# Altium footprint library SmartHalo_Footprints.PcbLib: 114 footprints (part 1 of 8)
Each footprint in its own frame and in the unit in brackets; x right, y up, seen from the top. Pads: shape width x height; smd on the part's side, far side on the other; paste and mask are expansions set on the pad; w line width, h text height; cw(c..) or ccw(c..) is an arc to the next point about the centre after c.
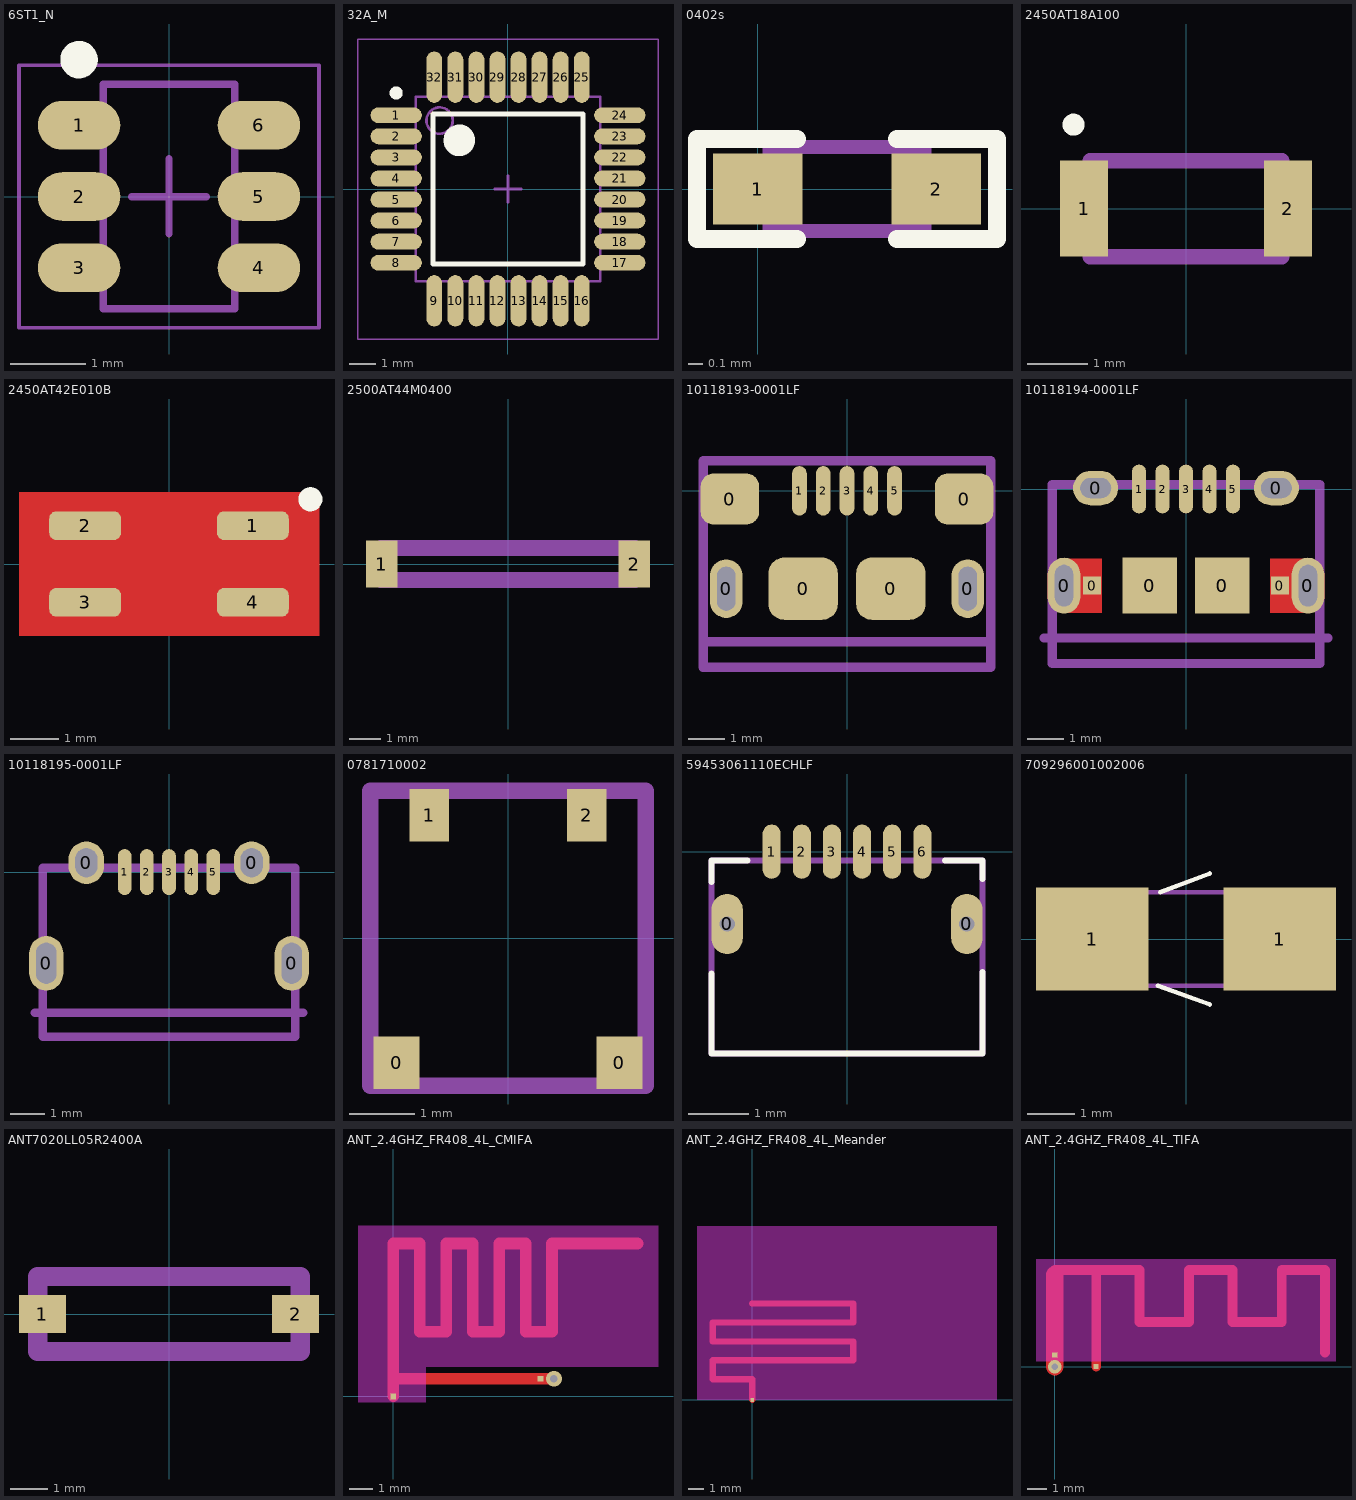
[diagram p0: the footprints below, top view; thin cyan lines are the x and y axes]

## 6ST1_N [mm] "SOT23, 6-Leads, Body 2.9x1.6mm, Pitch 0.95mm, Lead Span 2.8mm, IPC Medium Density"
height 1.45
pads (6):
  oval 1.1x0.65 smd mask+0.076: 1(-1.2,0.95) 2(-1.2,0) 3(-1.2,-0.95) 4(1.2,-0.95) 5(1.2,0) 6(1.2,0.95)
Top Overlay:
  circle w0.25: c-1.2,1.825 r0.125
3D Top:
  lines w0.1: -0.875,-1.5 -0.875,1.5 0.875,1.5 0.875,-1.5 -0.875,-1.5
Courtyard Top:
  lines w0.05: -2,-1.75 -2,1.75 2,1.75 2,-1.75 -2,-1.75
  lines w0.1: -0.5,0 0.5,0 ; 0,-0.5 0,0.5
3D body: height 1.45, standoff 0, extent -0.875,-1.5 0.875,1.5

## 32A_M [mm] "Thin QFP, 32-Leads, Body 7x7mm, Pitch 0.8mm, IPC Low Density"
height 1.2
pads (32):
  oval 1.95x0.6 smd mask+0.051: 1(-4.25,2.8) 2(-4.25,2) 3(-4.25,1.2) 4(-4.25,0.4) 5(-4.25,-0.4) 6(-4.25,-1.2) 7(-4.25,-2) 8(-4.25,-2.8) 17(4.25,-2.8) 18(4.25,-2) 19(4.25,-1.2) 20(4.25,-0.4) 21(4.25,0.4) 22(4.25,1.2) 23(4.25,2) 24(4.25,2.8)
  oval 0.6x1.95 smd mask+0.051: 9(-2.8,-4.25) 10(-2,-4.25) 11(-1.2,-4.25) 12(-0.4,-4.25) 13(0.4,-4.25) 14(1.2,-4.25) 15(2,-4.25) 16(2.8,-4.25) 25(2.8,4.25) 26(2,4.25) 27(1.2,4.25) 28(0.4,4.25) 29(-0.4,4.25) 30(-1.2,4.25) 31(-2,4.25) 32(-2.8,4.25)
Top Overlay:
  circle w0.25: c-4.25,3.65 r0.125
  circle w0.6: c-1.85,1.85 r0.3
  lines w0.2: -2.85,-2.85 -2.85,2.85 2.85,2.85 2.85,-2.85 -2.85,-2.85
3D Top:
  circle w0.1: c-2.6,2.6 r0.5
  lines w0.1: -3.5,-3.5 -3.5,3.5 3.5,3.5 3.5,-3.5 -3.5,-3.5
Courtyard Top:
  lines w0.05: -5.7,-5.7 -5.7,5.7 5.7,5.7 5.7,-5.7 -5.7,-5.7
  lines w0.1: -0.5,0 0.5,0 ; 0,-0.5 0,0.5
3D body: height 1.2, standoff 0, extent -3.5,-3.5 3.5,3.5

## 0402s [mil]
pads (2):
  rect 25x20 smd: 1(0,0) 2(50,0)
Top Overlay:
  lines w5: 11,-14 -17,-14 -17,14 11,14 ; 39,-14 67,-14 67,14 39,14
3D Top:
  lines w3.94: 3.35,-11.81 3.35,11.81 46.66,11.81 46.66,-11.81 3.35,-11.81
3D body: height 27.56, standoff 0, extent 13.19,-11.81 36.81,11.81
3D body: height 27.56, standoff 0, extent 3.35,-11.81 13.19,11.81
3D body: height 27.56, standoff 0, extent 36.81,-11.81 46.66,11.81

## 2450AT18A100 [mm] "Johanson Technology 2.45GHz SMD Chip Antenna, 3.2 x 1.6 mm body, 0.8 x 1.6 mm pads"
height 1.3
pads (2):
  rect 0.8x1.6 smd: 1(-1.7,0) 2(1.7,0)
Top Overlay:
  circle w0.254: c-1.875,1.4 r0.056
3D Top:
  lines w0.254: -1.6,-0.8 1.6,-0.8 1.6,0.8 -1.6,0.8 -1.6,-0.8
3D body: height 1.3, standoff 0, extent -1.6,-0.8 1.6,0.8

## 2450AT42E010B [mm] "2.4 GHz Low Profile Mini Chip Antenna, Above Metal, 4 pads, 1.5 x 0.6 mm pads, 3.5 x 1.6 mm pitch, 6.26 x 3 mm metal clearance"
height 1.5
pads (4):
  rrect50% 1.5x0.6 smd: 1(1.75,0.8) 2(-1.75,0.8) 3(-1.75,-0.8) 4(1.75,-0.8)
Top Layer:
  pour cut-out: -3.13,-1.5 -3.13,1.5 3.13,1.5 3.13,-1.5
Top Overlay:
  circle w0.254: c2.95,1.35 r0.125
Mechanical 3:
  rectangle: -3.13,-1.5 3.13,1.5
3D Top:
  lines w0.254: -2.5,-1 2.5,-1 2.5,1 -2.5,1 -2.5,-1 ; 0.55,-0.175 1.55,-0.175 1.55,0.225 0.55,0.225 0.55,-0.175
3D body: height 1.52, standoff 1.5, extent 0.55,-0.175 1.55,0.225
3D body: height 1.5, standoff 0, extent -2.5,-1 2.5,1

## 2500AT44M0400 [mm] "Johanson Technology 2.45GHz SMD Chip Antenna, 8 x 1 mm body, 1 x 1.5 mm pads"
height 1
pads (2):
  rect 1x1.5 smd: 1(-4,0) 2(4,0)
3D Top:
  lines w0.508: -4,-0.5 4,-0.5 4,0.5 -4,0.5 -4,-0.5
3D body: height 1, standoff 0, extent -3.5,-0.5 3.5,0.5
3D body: height 1, standoff 0, extent -4,-0.5 -3.5,0.5
3D body: height 1, standoff 0, extent 3.5,-0.5 4,0.5

## 10118193-0001LF [mm] "Micro USB B Type Receptacle, 5 pins, 0.4 x 1.35 mm pads"
height 2.7
pads (11):
  rrect100% 0.9x1.6 hole 0.5 slot 1.2 at 90 deg unplated: 0(-3.3,-2.675) 0(3.3,-2.675)
  rrect50% 1.6x1.4 smd: 0(-3.2,-0.225) 0(3.2,-0.225)
  rrect50% 1.9x1.7 smd: 0(-1.2,-2.675) 0(1.2,-2.675)
  oval 0.4x1.35 smd: 1(-1.3,0) 2(-0.65,0) 3(0,0) 4(0.65,0) 5(1.3,0)
Mechanical 3:
  lines w0.254: -3.93,-4.125 3.93,-4.125
3D Top:
  lines w0.254: -3.935,-4.825 3.925,-4.825 ; -3.93,-4.825 -3.93,0.825 3.93,0.825 3.93,-4.825
3D body: height 2.7, standoff 0, extent -3.935,-4.825 3.93,0.825

## 10118194-0001LF [mm] "Micro USB B Type Receptacle, 5 pins, 0.4 x 1.35 mm pads"
height 2.4
pads (13):
  rrect100% 0.9x1.55 hole 0.5 slot 1.15 at 90 deg: 0(-3.375,-2.675) 0(3.375,-2.675)
  rect 0.5x0.5 smd paste-0.1 mask-0.1: 0(-2.6,-2.675) 0(2.6,-2.675)
  rrect100% 1.25x0.95 hole 0.55 slot 0.85 at 0 deg: 0(-2.5,0.025) 0(2.5,0.025)
  rect 1.5x1.55 smd: 0(-1,-2.675) 0(1,-2.675)
  oval 0.4x1.35 smd mask+0.051: 1(-1.3,0) 2(-0.65,0) 3(0,0) 4(0.65,0) 5(1.3,0)
Top Layer:
  region: -3.325,-3.425 -3.424,-3.425 -3.608,-3.349 -3.749,-3.208 -3.825,-3.024 -3.825,-2.925 -3.825,-2.425 -3.825,-2.326 -3.749,-2.142 -3.608,-2.001 -3.424,-1.925 -3.325,-1.925 -2.325,-1.925 -2.325,-3.425
  region: 3.325,-1.925 3.424,-1.925 3.608,-2.001 3.749,-2.142 3.825,-2.326 3.825,-2.425 3.825,-2.925 3.825,-3.024 3.749,-3.208 3.608,-3.349 3.424,-3.425 3.325,-3.425 2.325,-3.425 2.325,-1.925
Top Paste:
  region: -3.325,-3.35 -3.363,-3.352 -3.437,-3.34 -3.508,-3.314 -3.572,-3.275 -3.6,-3.25 -3.637,-3.22 -3.697,-3.147 -3.742,-3.063 -3.769,-2.972 -3.774,-2.925 -3.774,-2.425 -3.771,-2.382 -3.749,-2.299 -3.71,-2.222 -3.657,-2.153 -3.625,-2.125 -3.596,-2.095 -3.526,-2.049 -3.449,-2.017 -3.367,-2 -3.325,-2 -2.4,-2 -2.4,-3.35
  region: 3.325,-2 3.363,-1.998 3.437,-2.01 3.508,-2.036 3.572,-2.075 3.6,-2.1 3.637,-2.13 3.697,-2.203 3.742,-2.287 3.769,-2.378 3.774,-2.425 3.774,-2.925 3.771,-2.968 3.749,-3.051 3.71,-3.128 3.657,-3.197 3.625,-3.225 3.596,-3.255 3.526,-3.301 3.449,-3.333 3.367,-3.35 3.325,-3.35 2.4,-3.35 2.4,-2
Top Solder:
  region: 3.325,-1.8 3.449,-1.8 3.679,-1.895 3.855,-2.071 3.95,-2.301 3.95,-2.425 3.95,-2.925 3.95,-3.049 3.855,-3.279 3.679,-3.455 3.449,-3.55 3.325,-3.55 2.2,-3.55 2.2,-1.8
  region: -3.325,-3.55 -3.449,-3.55 -3.679,-3.455 -3.855,-3.279 -3.95,-3.049 -3.95,-2.925 -3.95,-2.425 -3.95,-2.301 -3.855,-2.071 -3.679,-1.895 -3.449,-1.8 -3.325,-1.8 -2.2,-1.8 -2.2,-3.55
Mechanical 3:
  lines w0.254: -3.93,-4.125 3.93,-4.125
3D Top:
  lines w0.254: -3.7,-4.825 3.7,-4.825 3.7,0.125 -3.7,0.125 -3.7,-4.825
3D body: height 3.06, standoff 0, extent -3.7,-4.825 3.7,0.125

## 10118195-0001LF [mm] "Micro USB B Type Receptacle, 5 pins, 0.4 x 1.35 mm pads"
height 2.34
pads (9):
  rrect100% 1x1.6 hole 0.6 slot 1.2 at 90 deg unplated: 0(-3.6,-2.675) 0(3.6,-2.675)
  rrect100% 1.05x1.25 hole 0.65 slot 0.85 at 90 deg unplated: 0(-2.425,0.275) 0(2.425,0.275)
  oval 0.4x1.35 smd mask+0.051: 1(-1.3,0) 2(-0.65,0) 3(0,0) 4(0.65,0) 5(1.3,0)
Mechanical 3:
  lines w0.254: -3.93,-4.125 3.93,-4.125
3D Top:
  lines w0.254: -3.7,-4.825 3.7,-4.825 3.7,0.125 -3.7,0.125 -3.7,-4.825
3D body: height 3.06, standoff 0, extent -3.7,-4.825 3.7,0.125

## 0781710002 [mm] "Molex header, 1 row, 2 pos, pitch 1.2mm"
height 1.55
pads (4):
  rect 0.7x0.8 smd: 0(-1.7,-1.9) 0(1.7,-1.9)
  rect 0.6x0.8 smd: 1(-1.2,1.875) 2(1.2,1.875)
Outline:
  lines w0.254: -2.1,-2.25 -2.1,2.25 2.1,2.25 2.1,-2.25 -2.1,-2.25

## 59453061110ECHLF [mm] "Connector, 6 contacts, 0.3 x 0.9 mm pads, 0.52 x 1.0 mm mechanical pads, 0.5 mm pitch"
height 0.9
pads (8):
  oval 0.52x1 smd: 0(-1.99,-1.2) 0(1.99,-1.2)
  oval 0.3x0.9 smd mask+0.051: 1(-1.25,0) 2(-0.75,0) 3(-0.25,0) 4(0.25,0) 5(0.75,0) 6(1.25,0)
via -1.99,-1.2 diameter 0.457 hole 0.254
via 1.99,-1.2 diameter 0.457 hole 0.254
Top Overlay:
  lines w0.1: -2.25,-2.025 -2.25,-3.35 2.25,-3.35 2.25,-2 ; -2.25,-0.5 -2.25,-0.15 -1.65,-0.15 ; 1.625,-0.15 2.25,-0.15 2.25,-0.45
3D Top:
  lines w0.1: -2.25,-3.35 -2.25,-0.15 2.25,-0.15 2.25,-3.35 -2.25,-3.35
3D body: height 0.9, standoff 0, extent -2.25,-3.35 2.25,-0.15

## 709296001002006 [mm] "Connector Wire to Board, 2.0 x 2.0 mm, 2 pads, 2.4 x 2.2 mm, 4 mm pitch"
height 2
pads (2):
  rect 2.4x2.2 smd: 1(-2,0) 1(2,0)
Top Overlay:
  lines w0.1: -0.6,-1 0.508,-1.397 ; -0.55,1 0.508,1.397
3D Top:
  lines w0.1: -3,-1 3,-1 3,1 -3,1 -3,-1
3D body: height 2, standoff 0, extent -3,-1 3,1

## ANT7020LL05R2400A [mm] "Yageo 2.45GHz SMD Chip Antenna, 7 x 2 mm body, 1.25 x 1 mm pads"
height 0.75
pads (2):
  rect 1.25x1 smd: 1(-3.375,0) 2(3.375,0)
3D Top:
  lines w0.508: -3.5,-1 3.5,-1 3.5,1 -3.5,1 -3.5,-1
3D body: height 0.75, standoff 0, extent 3.05,-1 3.5,1
3D body: height 0.75, standoff 0, extent -3.05,-1 3.05,1
3D body: height 0.75, standoff 0, extent -3.5,-1 -3.05,1

## ANT_2.4GHZ_FR408_4L_CMIFA [mil] "PCB printed Cypress MIFA antenna design for 2.4GHz band (TI) on FR408 4 layer substrate with internal ground plane (1 oz external cu/0.5 oz internal)"
pads (2):
  rect 10x10 smd: 1(0,0) 2(250,30)
via 273,30 diameter 27 hole 13
Top Layer:
  lines w20: 0,0 0,260 45,260 45,110 90,110 90,260 135,260 135,110 180,110 180,260 225,260 225,110 270,110 270,260 415,260 ; 0,30 273,30
Keep-Out Layer:
  region: -60,290 450,290 450,50 345,50 245,50 145,50 55,50 55,20 55,-10 -60,-10

## ANT_2.4GHZ_FR408_4L_Meander [mm] "PCB printed meander antenna design for 2.4GHz band on FR408 4 layer substrate with internal ground plane (1 oz external cu/0.5 oz internal)"
pads (1):
  rect 0.25x0.25 smd: 1(0,0)
Top Layer:
  lines w0.4: 0,0 0,1.3 -2.5,1.3 -2.5,2.5 6.4,2.5 6.4,3.7 -2.5,3.7 -2.5,4.9 6.4,4.9 6.4,6.1 0,6.1
Keep-Out Layer:
  rectangle: -3.5,0 15.5,11

## ANT_2.4GHZ_FR408_4L_TIFA [mil] "PCB printed IFA antenna design for 2.4GHz band (TI) on FR408 4 layer substrate with internal ground plane (1 oz external cu/0.5 oz internal)"
pads (2):
  rect 10x10 smd: 1(82.68,0) 2(0,22.64)
via 0,0 diameter 27 hole 13
Top Layer:
  lines w19.68: 0,192.91 169.29,192.91 169.29,88.98 267.72,88.98 267.72,192.91 354.33,192.91 354.33,88.98 452.76,88.98 452.76,192.91 539.37,192.91 539.37,27.95 ; 82.68,0 82.68,192.91
  lines w35.43: 0,0 0,183.07
Keep-Out Layer:
  rectangle: -37.4,9.84 561.02,214.57